# EAGLE library part ATSAMS70J (library Atmel)
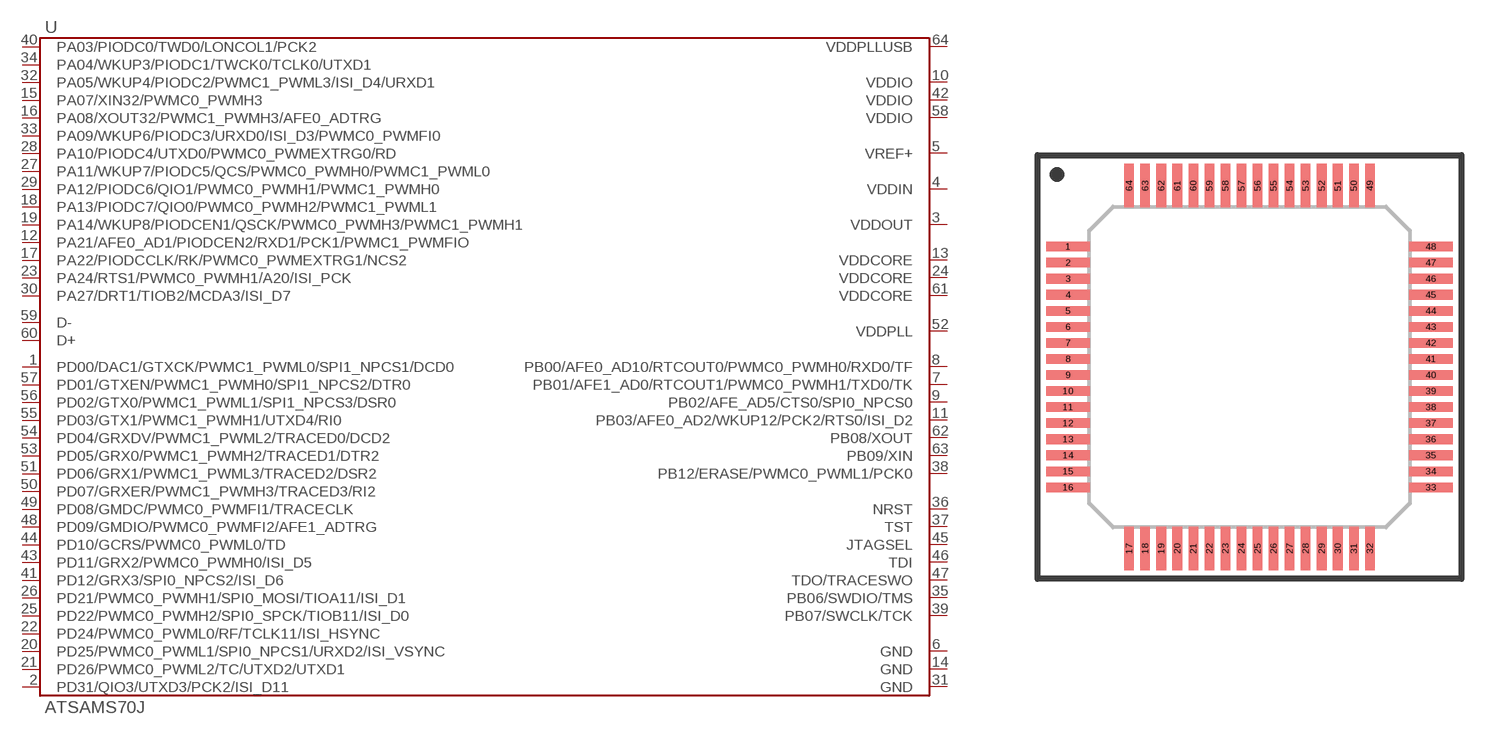
[diagram p24: symbol with the pads of LQFP-64; footprint LQFP-64]

Designator prefix U

## ATSAMS70J19A-AN  [LQFP-64]
1  PD00/DAC1/GTXCK/PWMC1_PWML0/SPI1_NPCS1/DCD0
2  PD31/QIO3/UTXD3/PCK2/ISI_D11
3  VDDOUT
4  VDDIN
5  VREF+
6  GND
7  PB01/AFE1_AD0/RTCOUT1/PWMC0_PWMH1/TXD0/TK
8  PB00/AFE0_AD10/RTCOUT0/PWMC0_PWMH0/RXD0/TF
9  PB02/AFE_AD5/CTS0/SPI0_NPCS0
10  VDDIO
11  PB03/AFE0_AD2/WKUP12/PCK2/RTS0/ISI_D2
12  PA21/AFE0_AD1/PIODCEN2/RXD1/PCK1/PWMC1_PWMFIO
13  VDDCORE
14  GND
15  PA07/XIN32/PWMC0_PWMH3
16  PA08/XOUT32/PWMC1_PWMH3/AFE0_ADTRG
17  PA22/PIODCCLK/RK/PWMC0_PWMEXTRG1/NCS2
18  PA13/PIODC7/QIO0/PWMC0_PWMH2/PWMC1_PWML1
19  PA14/WKUP8/PIODCEN1/QSCK/PWMC0_PWMH3/PWMC1_PWMH1
20  PD25/PWMC0_PWML1/SPI0_NPCS1/URXD2/ISI_VSYNC
21  PD26/PWMC0_PWML2/TC/UTXD2/UTXD1
22  PD24/PWMC0_PWML0/RF/TCLK11/ISI_HSYNC
23  PA24/RTS1/PWMC0_PWMH1/A20/ISI_PCK
24  VDDCORE
25  PD22/PWMC0_PWMH2/SPI0_SPCK/TIOB11/ISI_D0
26  PD21/PWMC0_PWMH1/SPI0_MOSI/TIOA11/ISI_D1
27  PA11/WKUP7/PIODC5/QCS/PWMC0_PWMH0/PWMC1_PWML0
28  PA10/PIODC4/UTXD0/PWMC0_PWMEXTRG0/RD
29  PA12/PIODC6/QIO1/PWMC0_PWMH1/PWMC1_PWMH0
30  PA27/DRT1/TIOB2/MCDA3/ISI_D7
31  GND
32  PA05/WKUP4/PIODC2/PWMC1_PWML3/ISI_D4/URXD1
33  PA09/WKUP6/PIODC3/URXD0/ISI_D3/PWMC0_PWMFI0
34  PA04/WKUP3/PIODC1/TWCK0/TCLK0/UTXD1
35  PB06/SWDIO/TMS
36  NRST
37  TST
38  PB12/ERASE/PWMC0_PWML1/PCK0
39  PB07/SWCLK/TCK
40  PA03/PIODC0/TWD0/LONCOL1/PCK2
41  PD12/GRX3/SPI0_NPCS2/ISI_D6
42  VDDIO
43  PD11/GRX2/PWMC0_PWMH0/ISI_D5
44  PD10/GCRS/PWMC0_PWML0/TD
45  JTAGSEL
46  TDI
47  TDO/TRACESWO
48  PD09/GMDIO/PWMC0_PWMFI2/AFE1_ADTRG
49  PD08/GMDC/PWMC0_PWMFI1/TRACECLK
50  PD07/GRXER/PWMC1_PWMH3/TRACED3/RI2
51  PD06/GRX1/PWMC1_PWML3/TRACED2/DSR2
52  VDDPLL
53  PD05/GRX0/PWMC1_PWMH2/TRACED1/DTR2
54  PD04/GRXDV/PWMC1_PWML2/TRACED0/DCD2
55  PD03/GTX1/PWMC1_PWMH1/UTXD4/RI0
56  PD02/GTX0/PWMC1_PWML1/SPI1_NPCS3/DSR0
57  PD01/GTXEN/PWMC1_PWMH0/SPI1_NPCS2/DTR0
58  VDDIO
59  D-
60  D+
61  VDDCORE
62  PB08/XOUT
63  PB09/XIN
64  VDDPLLUSB

## Footprint LQFP-64 (pad centres in mm)
smd 1.35 x 0.3: 1 -5.65,3.75; 2 -5.65,3.25; 3 -5.65,2.75; 4 -5.65,2.25; 5 -5.65,1.75; 6 -5.65,1.25; 7 -5.65,0.75; 8 -5.65,0.25; 9 -5.65,-0.25; 10 -5.65,-0.75; 11 -5.65,-1.25; 12 -5.65,-1.75; 13 -5.65,-2.25; 14 -5.65,-2.75; 15 -5.65,-3.25; 16 -5.65,-3.75; 33 5.65,-3.75; 34 5.65,-3.25; 35 5.65,-2.75; 36 5.65,-2.25; 37 5.65,-1.75; 38 5.65,-1.25; 39 5.65,-0.75; 40 5.65,-0.25; 41 5.65,0.25; 42 5.65,0.75; 43 5.65,1.25; 44 5.65,1.75; 45 5.65,2.25; 46 5.65,2.75; 47 5.65,3.25; 48 5.65,3.75
smd 0.3 x 1.35: 17 -3.75,-5.65; 18 -3.25,-5.65; 19 -2.75,-5.65; 20 -2.25,-5.65; 21 -1.75,-5.65; 22 -1.25,-5.65; 23 -0.75,-5.65; 24 -0.25,-5.65; 25 0.25,-5.65; 26 0.75,-5.65; 27 1.25,-5.65; 28 1.75,-5.65; 29 2.25,-5.65; 30 2.75,-5.65; 31 3.25,-5.65; 32 3.75,-5.65; 49 3.75,5.65; 50 3.25,5.65; 51 2.75,5.65; 52 2.25,5.65; 53 1.75,5.65; 54 1.25,5.65; 55 0.75,5.65; 56 0.25,5.65; 57 -0.25,5.65; 58 -0.75,5.65; 59 -1.25,5.65; 60 -1.75,5.65; 61 -2.25,5.65; 62 -2.75,5.65; 63 -3.25,5.65; 64 -3.75,5.65